# Altium footprint library TAU1105E-1010A00.PcbLib: 1 footprints
Each footprint in its own frame and in the unit in brackets; x right, y up, seen from the top. Pads: shape width x height; smd on the part's side, far side on the other; paste and mask are expansions set on the pad; w line width, h text height; cw(c..) or ccw(c..) is an arc to the next point about the centre after c.
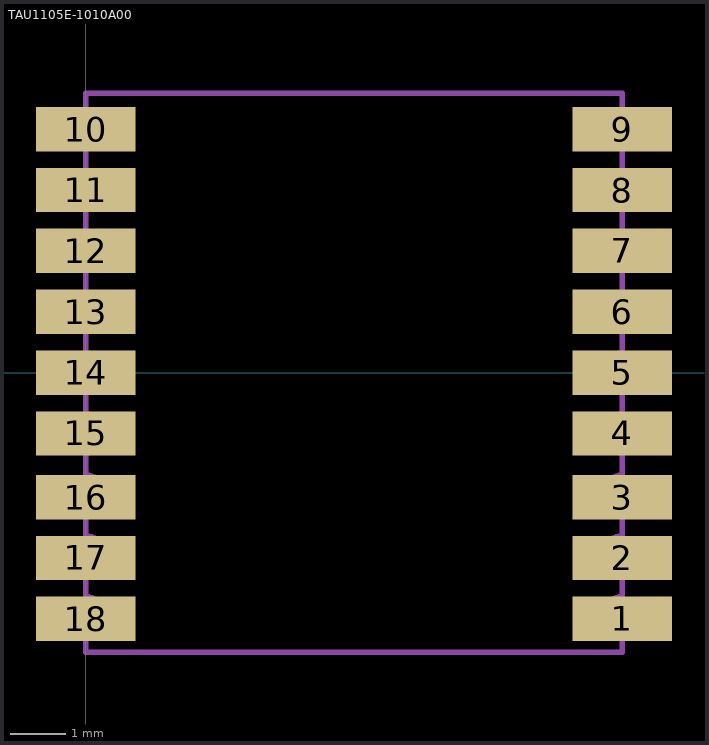
[diagram p0: the footprint, top view; thin cyan lines are the x and y axes]

## TAU1105E-1010A00 [mm]
pads (18):
  rect 1.8x0.8 smd: 1(9.7,-4.45) 2(9.7,-3.35) 3(9.7,-2.25) 4(9.7,-1.1) 5(9.7,0) 6(9.7,1.1) 7(9.7,2.2) 8(9.7,3.3) 9(9.7,4.4) 10(0,4.4) 11(0,3.3) 12(0,2.2) 13(0,1.1) 14(0,0) 15(0,-1.1) 16(0,-2.25) 17(0,-3.35) 18(0,-4.45)
Mechanical 1:
  lines w0.1: 0,-5.05 0,-4.75 ccw(c0,-4.4) 0,-4.05 0,-3.65 ccw(c0,-3.3) 0,-2.95 0,-2.55 ccw(c0,-2.2) 0,-1.85 0,-1.45 ccw(c0,-1.1) 0,-0.75 0,-0.35 ccw(c0,0) 0,0.35 0,0.75 ccw(c0,1.1) 0,1.45 0,1.85 ccw(c0,2.2) 0,2.55 0,2.95 ccw(c0,3.3) 0,3.65 0,4.05 ccw(c0,4.4) 0,4.75 0,5.05 9.7,5.05 9.7,4.75 ccw(c9.7,4.4) 9.7,4.05 9.7,3.65 ccw(c9.7,3.3) 9.7,2.95 9.7,2.55 ccw(c9.7,2.2) 9.7,1.85 9.7,1.45 ccw(c9.7,1.1) 9.7,0.75 9.7,0.35 ccw(c9.7,0) 9.7,-0.35 9.7,-0.75 ccw(c9.7,-1.1) 9.7,-1.45 9.7,-1.85 ccw(c9.7,-2.2) 9.7,-2.55 9.7,-2.95 ccw(c9.7,-3.3) 9.7,-3.65 9.7,-4.05 ccw(c9.7,-4.4) 9.7,-4.75 9.7,-5.05 0,-5.05